# Altium schematic symbol library Jumper 1.SchLib: 1 symbol
Pins are listed as number, name and electrical type; pins without a type are passive.

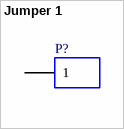
[diagram p0: symbol Jumper 1]

## Jumper 1
designator P?
Jumper / link header, 1-Pin
pins: 1